# Altium integrated library ISO3082DW.IntLib: 1 symbol
Pins are listed as number, name and electrical type; pins without a type are passive.

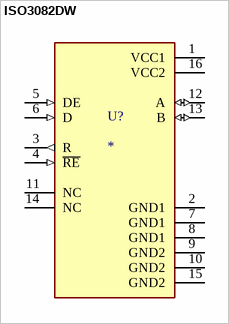
[diagram p0: symbol ISO3082DW]

## ISO3082DW
designator U?
200-Kbps, half-duplex, 2.5-kVrms isolated RS-485 & RS-422 transceiver; MF: Texas Instruments; MP: ISO3082DW; SnapEDA_Link: https://www.snapeda.com/parts/ISO3082DW/Texas+Instruments/view-part/?ref=snap; Package: SOIC-16 Texas Instruments; Value: *; Check_prices: https://www.snapeda.com/parts/ISO3082DW/Texas+Instruments/view-part/?ref=eda
footprint SOIC127P1030X265-16N
pins: 1 VCC1 (power), 2 GND1 (power), 3 R (out), 4 ~{RE} (in), 5 DE (in), 6 D (in), 7 GND1 (power), 8 GND1 (power), 9 GND2 (power), 10 GND2 (power), 11 NC, 12 A (io), 13 B (io), 14 NC, 15 GND2 (power), 16 VCC2 (power)